# Altium footprint library SOT.PcbLib: 6 footprints
Each footprint in its own frame and in the unit in brackets; x right, y up, seen from the top. Pads: shape width x height; smd on the part's side, far side on the other; paste and mask are expansions set on the pad; w line width, h text height; cw(c..) or ccw(c..) is an arc to the next point about the centre after c.
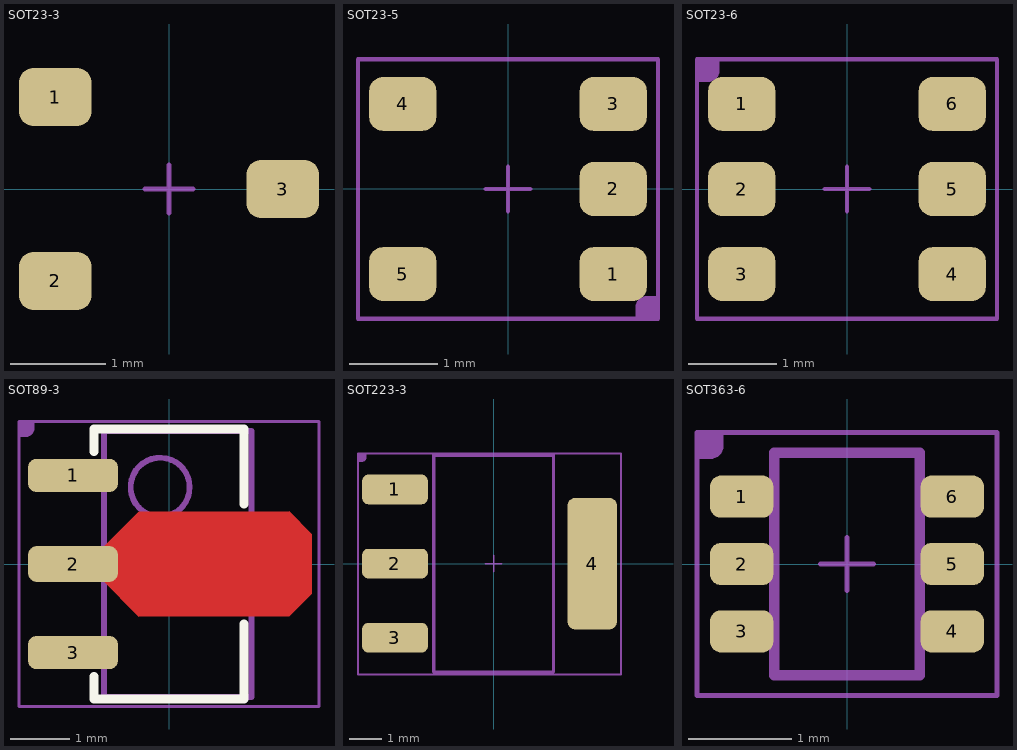
[diagram p0: the footprints below, top view; thin cyan lines are the x and y axes]

## SOT23-3 [mil]
height 39.5
pads (3):
  rrect50% 30x24 smd: 1(-47,38) 2(-47,-38) 3(47,0)
Mechanical 13:
  lines w2: -10,0 10,0 ; 0,-10 0,10
3D body "User Library-SOT23-3.STEP": height 51.18, standoff 0, extent -55.11,-57.09 55.12,57.09

## SOT23-5 [mil]
height 62.99
pads (5):
  rrect50% 30x24 smd: 1(47,-38) 2(47,0) 3(47,38) 4(-47,38) 5(-47,-38)
Mechanical 13:
  lines w2: -10,0 10,0 ; 0,-10 0,10
Mechanical 14:
  region: 67,-58 57,-58 57,-53 57,-52.01 57.76,-50.17 59.17,-48.76 61.01,-48 62,-48 67,-48
  lines w2: -67,-58 67,-58 67,58 -67,58 -67,-58
  text ".Designator" at -41,-25 h100
3D body "User Library-SOT23-5-2.STEP": height 57.09, standoff 0, extent -55.12,-57.09 55.11,57.09

## SOT23-6 [mil]
height 62.99
pads (6):
  rrect50% 30x24 smd: 1(-47,38) 2(-47,0) 3(-47,-38) 4(47,-38) 5(47,0) 6(47,38)
Mechanical 13:
  lines w2: -10,0 10,0 ; 0,-10 0,10
Mechanical 14:
  region: -67,58 -57,58 -57,53 -57,52.01 -57.76,50.17 -59.17,48.76 -61.01,48 -62,48 -67,48
  lines w2: -67,-58 67,-58 67,58 -67,58 -67,-58
  text ".Designator" at -41,-25 h100
3D body "User Library-SOT23-6-2.STEP": height 57.09, standoff 0, extent -55.11,-57.09 55.12,57.09

## SOT89-3 [mil]
height 59.06
pads (3):
  rrect50% 60x22 smd: 1(-64,59.06) 3(-64,-59.06)
  rrect50% 60x24 smd: 2(-64,0)
Top Layer:
  region: -45,10 -20,35 80,35 95,20 95,-20 80,-35 -20,-35 -45,-10
Top Overlay:
  lines w6: -50,-75 -50,-90 50,-90 50,-40 ; -50,75 -50,90 50,90 50,40
Mechanical 13:
  circle w3.94: c-5.91,51.18 r19.68
  lines w3.94: -13.78,0 25.59,0 ; 5.91,-19.69 5.91,19.68 ; -43.31,-88.58 -43.31,88.58 55.12,88.58 55.12,-88.58 -43.31,-88.58
Mechanical 14:
  region: -100,95 -90,95 -90,90 -90,89.01 -90.76,87.17 -92.17,85.76 -94.01,85 -95,85 -100,85
  lines w2: -100,-95 -100,95 100,95 100,-95 -100,-95
  text ".Designator" at -41,-25 h100
3D body "SOT89-150P410X150-3N.step": height 60.06, standoff 1, extent -82.67,-88.44 74.81,88.45

## SOT223-3 [mil]
height 70.87
pads (4):
  rrect40% 80x36 smd: 1(-120,90.16) 2(-120,0) 3(-120,-90.16)
  rrect30% 60x160 smd: 4(120,0)
Mechanical 13:
  lines w2: -10,0 10,0 ; 0,-10 0,10
  lines w3.94: -72.83,-131.89 72.83,-131.89 72.83,131.89 -72.83,131.89 -72.83,-131.89
Mechanical 14:
  region: -165,134 -155,134 -155,129 -155,128.01 -155.76,126.17 -157.17,124.76 -159.01,124 -160,124 -165,124
  lines w2: -165,-135 155,-135 155,134 -165,134 -165,-135
3D body "SOT223-4.STEP": height 70.87, standoff 0, extent -143.69,-131.9 143.71,131.88

## SOT363-6 [mil]
height 43.31
pads (6):
  rrect50% 24x16 smd: 1(-40,25.59) 2(-40,0) 3(-40,-25.59) 4(40,-25.59) 5(40,0) 6(40,25.59)
Mechanical 13:
  lines w2: -10,0 10,0 ; 0,-10 0,10
  lines w4: -27.56,-42.32 -27.56,42.32 27.56,42.32 27.56,-42.32 -27.56,-42.32
Mechanical 14:
  region: -57,50 -47,50 -47,45 -47,44.01 -47.76,42.17 -49.17,40.76 -51.01,40 -52,40 -57,40
  lines w2: -57,-50 -57,50 57,50 57,-50 -57,-50
  text ".Designator" at -41,-25 h100
3D body "SW3dPS-SC70-6.STEP": height 36.73, standoff -0.67, extent -41.33,-39.37 41.35,39.37